# Altium schematic symbol library ES2D.Schlib: 1 symbol
Pins are listed as number, name and electrical type; pins without a type are passive.

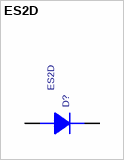
[diagram p0: symbol ES2D]

## ES2D
designator D?
pins: 1 A, 2 K